# Altium schematic symbol library PA94.SchLib: 1 symbol
Pins are listed as number, name and electrical type; pins without a type are passive.

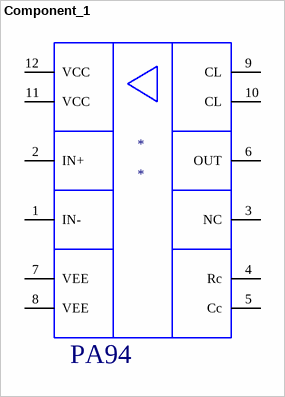
[diagram p0: symbol Component_1]

## Component_1
designator *
footprint PCBComponent_1
footprint PCBComponent_1
pins: 1 IN-, 2 IN+, 3 NC, 4 Rc, 5 Cc, 6 OUT, 7 VEE, 8 VEE, 9 CL, 10 CL, 11 VCC, 12 VCC
text: PA94